# Altium footprint library Molex 533980571.PcbLib: 1 footprints
Each footprint in its own frame and in the unit in brackets; x right, y up, seen from the top. Pads: shape width x height; smd on the part's side, far side on the other; paste and mask are expansions set on the pad; w line width, h text height; cw(c..) or ccw(c..) is an arc to the next point about the centre after c.
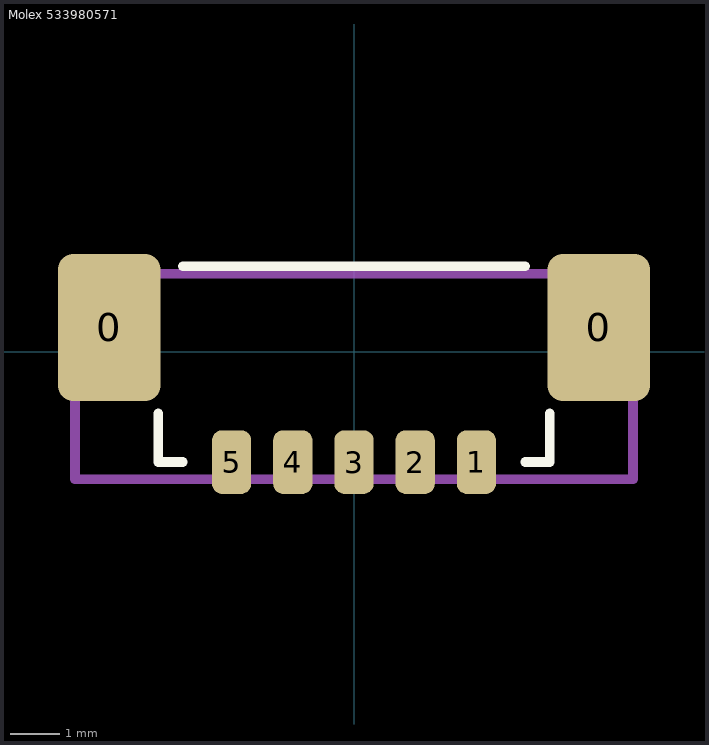
[diagram p0: the footprint, top view; thin cyan lines are the x and y axes]

## Molex 533980571 [mm] "1.25mm Pitch, PicoBlade PCB Header, Single Row, Vertical, Surface Mount"
height 2
pads (7):
  rrect30% 2.1x3 smd: 0(-5,0.5) 0(5,0.5)
  rrect50% 0.8x1.3 smd: 1(2.5,-2.25) 2(1.25,-2.25) 3(0,-2.25) 4(-1.25,-2.25) 5(-2.5,-2.25)
Top Overlay:
  lines w0.2: -4,-1.25 -4,-2.25 -3.5,-2.25 ; -3.5,1.75 3.5,1.75 ; 3.5,-2.25 4,-2.25 4,-1.25
Top 3D Body:
  lines w0.2: -5.7,-2.6 5.7,-2.6 5.7,1.6 -5.7,1.6 -5.7,-2.6
3D body "533980571.stp": height 4.74, standoff 0, extent -5.7,-2.6 5.7,1.6